# Altium footprint library FootPrintLib_4.PcbLib: 700 footprints (part 5 of 44)
Each footprint in its own frame and in the unit in brackets; x right, y up, seen from the top. Pads: shape width x height; smd on the part's side, far side on the other; paste and mask are expansions set on the pad; w line width, h text height; cw(c..) or ccw(c..) is an arc to the next point about the centre after c.
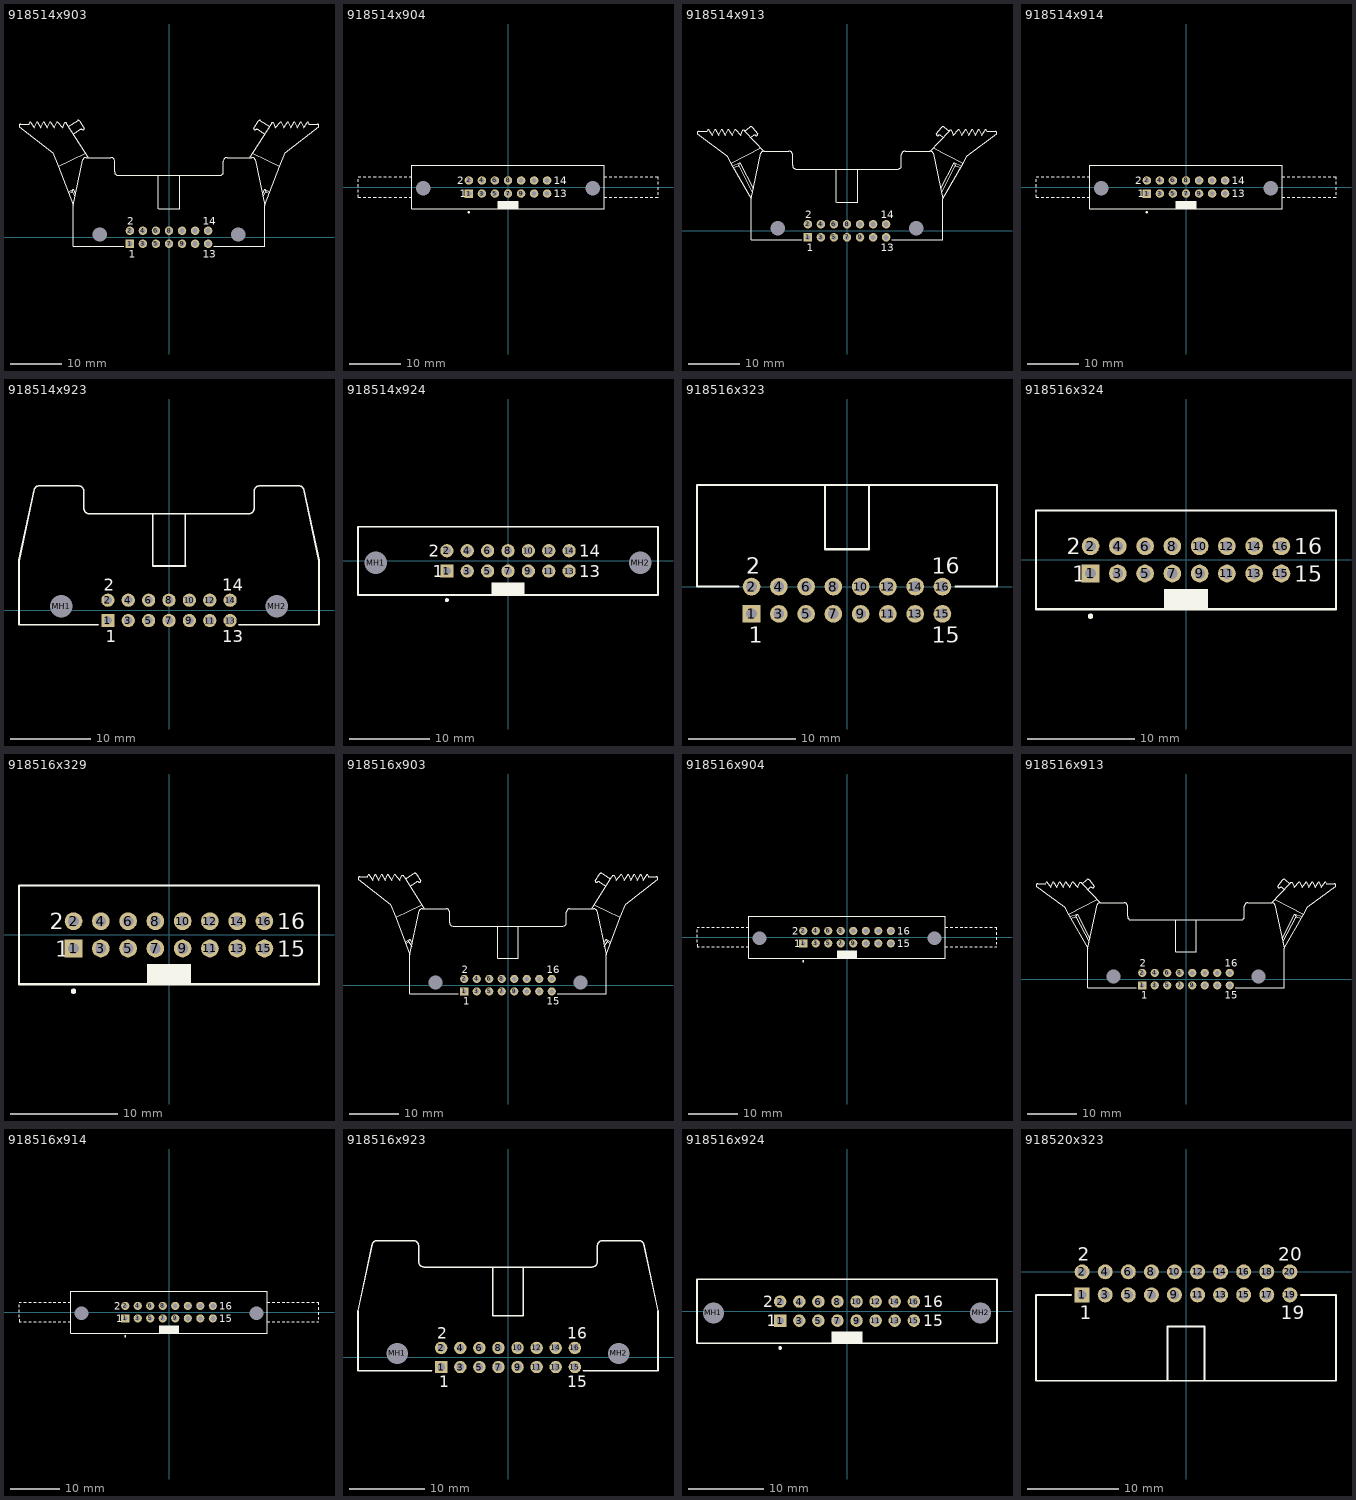
[diagram p4: the footprints below, top view; thin cyan lines are the x and y axes]

## 918514x903 [mm] "Connector; IDC, Thru-Hole; 14 Position; Right Angle; Pitch 2.54 mm; Body 37.40 x 8.5 x 25.75 mm (LxHxW), Locking levers"
height 25.75
pads (16):
  rect 1.65x1.65 hole 1: 1(-7.62,-1.27)
  round 1.65 hole 1: 2(-7.62,1.27) 3(-5.08,-1.27) 4(-5.08,1.27) 5(-2.54,-1.27) 6(-2.54,1.27) 7(0,-1.27) 8(0,1.27) 9(2.54,-1.27) 10(2.54,1.27) 11(5.08,-1.27) 12(5.08,1.27) 13(7.62,-1.27) 14(7.62,1.27)
  round 2.5 hole 2.8 unplated: MH1(-13.46,0.53) MH2(13.46,0.53)
Top Overlay:
  lines w0.2: -19.67,8.851 -18.705,9.3 ; -19.541,8.563 -18.87,8.877 ; -19.535,21.6 -17.812,22.725 cw(c-17.663,22.387) -17.397,22.644 -16.472,21.245 cw(c-16.792,21.225) -16.844,20.91 ccw(c-17.112,20.595) -17.247,20.985 ; -18.613,20.103 -17.25,20.991 ; -18.343,7.925 -18.87,8.877 ; -18.243,8.378 -18.705,9.3 ; -16.315,16.383 -21.539,13.84 ; -15.744,15.53 -19.878,22.058 ccw(c-20.201,21.956) -20.343,22.265 -20.75,21.301 -21.78,22.501 -22.41,21.301 -23.16,22.501 -23.71,21.301 -24.41,22.501 -25.03,21.301 -25.68,22.501 -26.28,21.301 -27.025,22.501 ; -8.845,-1.77 -18.7,-1.77 -18.7,6.23 ; -2.05,5.53 -2.05,12.03 ; -2.04,5.53 2.06,5.53 ; 2.05,5.534 2.05,12.03 ; 8.73,-1.77 18.7,-1.77 18.7,6.23 ; 15.744,15.53 19.878,22.058 cw(c20.201,21.956) 20.343,22.265 20.75,21.301 21.78,22.501 22.41,21.301 23.16,22.501 23.71,21.301 24.41,22.501 25.03,21.301 25.68,22.501 26.28,21.301 27.025,22.501 ; 16.315,16.383 21.539,13.84 ; 17.247,20.985 ccw(c17.112,20.595) 16.844,20.91 cw(c16.792,21.225) 16.472,21.245 17.397,22.644 cw(c17.663,22.387) 17.812,22.725 19.535,21.6 ; 17.25,20.991 18.613,20.103 ; 18.243,8.378 18.705,9.3 ; 18.343,7.925 18.87,8.877 ; 19.541,8.563 18.87,8.877 ; 19.67,8.851 18.705,9.3 ; -27.28,22.03 -27.025,22.501 ; -27.28,22.03 -27.025,22.501 ; -27.28,22.03 -28.891,22.03 ccw(c-28.891,21.69) -29.2,21.549 -22.665,16.455 -21.539,13.84 ; -21.539,13.84 -18.7,6.23 ; -18.87,8.877 -18.705,9.3 ; -18.7,6.23 -16.81,15.102 cw(c-16.165,14.83) -16.15,15.53 -11.305,15.53 cw(c-11.305,14.83) -10.605,14.83 -10.605,12.73 ccw(c-9.905,12.73) -9.905,12.03 9.905,12.03 ccw(c9.905,12.73) 10.605,12.73 10.605,14.83 cw(c11.305,14.83) 11.305,15.53 16.15,15.53 cw(c16.165,14.83) 16.81,15.102 18.7,6.23 ; 18.7,6.23 21.539,13.84 ; 18.705,9.3 18.87,8.877 ; 21.539,13.84 22.665,16.455 29.2,21.549 ccw(c28.891,21.69) 28.891,22.03 27.28,22.03 ; 27.025,22.501 27.28,22.03 ; 27.025,22.501 27.28,22.03
  text "13" at 6.62,-3.97 h1.5
  text "14" at 6.62,2.47 h1.5
  text "1" at -7.87,-3.97 h1.5
  text "2" at -8.12,2.47 h1.5

## 918514x904 [mm] "Connector; IDC, Thru-Hole; 14 Position; Vertical; Pitch 2.54 mm; Body 37.40 x 8.5 x 25.75 mm (LxWxH), Locking levers"
height 25.75
pads (16):
  rect 1.65x1.65 hole 1: 1(-7.62,-1.27)
  round 1.65 hole 1: 2(-7.62,1.27) 3(-5.08,-1.27) 4(-5.08,1.27) 5(-2.54,-1.27) 6(-2.54,1.27) 7(0,-1.27) 8(0,1.27) 9(2.54,-1.27) 10(2.54,1.27) 11(5.08,-1.27) 12(5.08,1.27) 13(7.62,-1.27) 14(7.62,1.27)
  round 2.5 hole 2.8 unplated: MH1(-16.51,-0.25) MH2(16.51,-0.25)
Top Overlay:
  circle w0.25: c-7.62,-4.9 r0.125
  rectangle: -2.05,-4.25 2.05,-2.7
  lines w0.2: -29.2,-1 -29.2,-0.5 ; -29.2,0 -29.2,0.5 ; -29.2,1 -29.2,1.5 ; -29.2,2 -28.69,2 ; -29.19,-1.5 -29.2,-2 -28.69,-2 ; -28.19,-2 -27.69,-2 ; -28.19,2 -27.69,2 ; -27.19,-2 -26.69,-2 ; -27.19,2 -26.69,2 ; -26.19,-2 -25.69,-2 ; -26.19,2 -25.69,2 ; -25.19,-2 -24.69,-2 ; -25.19,2 -24.69,2 ; -24.19,-2 -23.69,-2 ; -24.19,2 -23.69,2 ; -23.19,-2 -22.69,-2 ; -23.19,2 -22.69,2 ; -22.19,-2 -21.69,-2 ; -22.19,2 -21.69,2 ; -21.19,-2 -20.69,-2 ; -21.19,2 -20.69,2 ; -20.19,-2 -19.69,-2 ; -20.19,2 -19.69,2 ; -19.19,-2 -18.7,-2 ; -19.19,2 -18.7,2 ; 18.7,-2 19.2,-2 ; 18.7,2 19.2,2 ; 19.7,-2 20.2,-2 ; 19.7,2 20.2,2 ; 20.7,-2 21.2,-2 ; 20.7,2 21.2,2 ; 21.7,-2 22.2,-2 ; 21.7,2 22.2,2 ; 22.7,-2 23.2,-2 ; 22.7,2 23.2,2 ; 23.7,-2 24.2,-2 ; 23.7,2 24.2,2 ; 24.7,-2 25.2,-2 ; 24.7,2 25.2,2 ; 25.7,-2 26.2,-2 ; 25.7,2 26.2,2 ; 26.7,-2 27.2,-2 ; 26.7,2 27.2,2 ; 27.7,-2 28.2,-2 ; 27.7,2 28.2,2 ; 28.7,-2 29.2,-2 ; 28.7,2 29.2,2 29.2,1.5 ; 29.2,-1.5 29.2,-1 ; 29.2,-0.5 29.2,0 ; 29.2,0.5 29.2,1 ; -18.7,-4.25 18.7,-4.25 18.7,4.25 -18.7,4.25 -18.7,-4.25
  text "13" at 8.9,-2.02 h1.5
  text "14" at 8.9,0.52 h1.5
  text "1" at -9.4,-2.02 h1.5
  text "2" at -9.9,0.52 h1.5

## 918514x913 [mm] "Connector; IDC, Thru-Hole; 14 Position; Right Angle; Pitch 2.54 mm; Body 37.40 x 8.5 x 23.30 mm (LxHxW), Locking levers"
height 23.3
pads (16):
  rect 1.65x1.65 hole 1: 1(-7.62,-1.27)
  round 1.65 hole 1: 2(-7.62,1.27) 3(-5.08,-1.27) 4(-5.08,1.27) 5(-2.54,-1.27) 6(-2.54,1.27) 7(0,-1.27) 8(0,1.27) 9(2.54,-1.27) 10(2.54,1.27) 11(5.08,-1.27) 12(5.08,1.27) 13(7.62,-1.27) 14(7.62,1.27)
  round 2.5 hole 2.8 unplated: MH1(-13.46,0.53) MH2(13.46,0.53)
Top Overlay:
  lines w0.2: -22.369,12.722 -20.881,13.218 ; -22.141,12.377 -21.123,12.716 ; -18.738,18.198 -18.173,18.617 cw(c-18.037,18.227) -17.77,18.542 ccw(c-17.717,18.857) -17.398,18.877 -18.457,20.156 ccw(c-18.723,19.899) -18.872,20.238 -19.878,19.388 ; -18.453,7.442 -21.123,12.716 ; -18.306,8.195 -20.881,13.218 ; -16.82,16.204 -22.639,13.199 ; -16.207,15.533 -19.878,19.388 ; -8.845,-1.77 -18.7,-1.77 -18.7,6.23 ; -2.05,5.53 -2.05,12.03 ; -2.04,5.53 2.06,5.53 ; 2.05,5.534 2.05,12.03 ; 8.73,-1.77 18.7,-1.77 18.7,6.23 ; 16.207,15.533 19.878,19.388 ; 16.82,16.204 22.639,13.199 ; 18.306,8.195 20.881,13.218 ; 18.453,7.442 21.123,12.716 ; 18.738,18.198 18.173,18.617 ccw(c18.037,18.227) 17.77,18.542 cw(c17.717,18.857) 17.398,18.877 18.457,20.156 cw(c18.723,19.899) 18.872,20.238 19.878,19.388 ; 22.141,12.377 21.123,12.716 ; 22.369,12.722 20.881,13.218 ; -27.28,19.359 -27.024,19.83 ; -27.28,19.359 -27.024,19.83 ; -27.28,19.359 -28.891,19.359 ccw(c-28.891,19.02) -29.2,18.879 -23.445,14.654 -22.639,13.199 ; -27.024,19.83 -26.28,18.63 -25.68,19.83 -25.03,18.63 -24.41,19.83 -23.71,18.63 -23.16,19.83 -22.41,18.63 -21.78,19.83 -20.75,18.63 -20.343,19.594 cw(c-20.201,19.285) -19.878,19.388 ; -22.639,13.199 -18.7,6.23 ; -21.123,12.716 -20.881,13.218 ; -18.7,6.23 -16.81,15.102 cw(c-16.165,14.83) -16.15,15.53 -11.305,15.53 cw(c-11.305,14.83) -10.605,14.83 -10.605,12.73 ccw(c-9.905,12.73) -9.905,12.03 9.905,12.03 ccw(c9.905,12.73) 10.605,12.73 10.605,14.83 cw(c11.305,14.83) 11.305,15.53 16.15,15.53 cw(c16.165,14.83) 16.81,15.102 18.7,6.23 ; 18.7,6.23 22.639,13.199 ; 19.878,19.388 cw(c20.201,19.285) 20.343,19.594 20.75,18.63 21.78,19.83 22.41,18.63 23.16,19.83 23.71,18.63 24.41,19.83 25.03,18.63 25.68,19.83 26.28,18.63 27.024,19.83 ; 20.881,13.218 21.123,12.716 ; 22.639,13.199 23.445,14.654 29.2,18.879 ccw(c28.891,19.02) 28.891,19.359 27.28,19.359 ; 27.024,19.83 27.28,19.359 ; 27.024,19.83 27.28,19.359
  text "2" at -8.12,2.47 h1.5
  text "1" at -7.87,-3.97 h1.5
  text "14" at 6.62,2.47 h1.5
  text "13" at 6.62,-3.97 h1.5

## 918514x914 [mm] "Connector; IDC, Thru-Hole; 14 Position; Vertical; Pitch 2.54 mm; Body 37.40 x 8.5 x 23.30 mm (LxWxH), Locking levers"
height 23.3
pads (16):
  rect 1.65x1.65 hole 1: 1(-7.62,-1.27)
  round 1.65 hole 1: 2(-7.62,1.27) 3(-5.08,-1.27) 4(-5.08,1.27) 5(-2.54,-1.27) 6(-2.54,1.27) 7(0,-1.27) 8(0,1.27) 9(2.54,-1.27) 10(2.54,1.27) 11(5.08,-1.27) 12(5.08,1.27) 13(7.62,-1.27) 14(7.62,1.27)
  round 2.5 hole 2.8 unplated: MH1(-16.51,-0.25) MH2(16.51,-0.25)
Top Overlay:
  circle w0.25: c-7.62,-4.9 r0.125
  rectangle: -2.05,-4.25 2.05,-2.7
  lines w0.2: -29.2,-1 -29.2,-0.5 ; -29.2,0 -29.2,0.5 ; -29.2,1 -29.2,1.5 ; -29.2,2 -28.69,2 ; -29.19,-1.5 -29.2,-2 -28.69,-2 ; -28.19,-2 -27.69,-2 ; -28.19,2 -27.69,2 ; -27.19,-2 -26.69,-2 ; -27.19,2 -26.69,2 ; -26.19,-2 -25.69,-2 ; -26.19,2 -25.69,2 ; -25.19,-2 -24.69,-2 ; -25.19,2 -24.69,2 ; -24.19,-2 -23.69,-2 ; -24.19,2 -23.69,2 ; -23.19,-2 -22.69,-2 ; -23.19,2 -22.69,2 ; -22.19,-2 -21.69,-2 ; -22.19,2 -21.69,2 ; -21.19,-2 -20.69,-2 ; -21.19,2 -20.69,2 ; -20.19,-2 -19.69,-2 ; -20.19,2 -19.69,2 ; -19.19,-2 -18.7,-2 ; -19.19,2 -18.7,2 ; 18.7,-2 19.2,-2 ; 18.7,2 19.2,2 ; 19.7,-2 20.2,-2 ; 19.7,2 20.2,2 ; 20.7,-2 21.2,-2 ; 20.7,2 21.2,2 ; 21.7,-2 22.2,-2 ; 21.7,2 22.2,2 ; 22.7,-2 23.2,-2 ; 22.7,2 23.2,2 ; 23.7,-2 24.2,-2 ; 23.7,2 24.2,2 ; 24.7,-2 25.2,-2 ; 24.7,2 25.2,2 ; 25.7,-2 26.2,-2 ; 25.7,2 26.2,2 ; 26.7,-2 27.2,-2 ; 26.7,2 27.2,2 ; 27.7,-2 28.2,-2 ; 27.7,2 28.2,2 ; 28.7,-2 29.2,-2 ; 28.7,2 29.2,2 29.2,1.5 ; 29.2,-1.5 29.2,-1 ; 29.2,-0.5 29.2,0 ; 29.2,0.5 29.2,1 ; -18.7,-4.25 18.7,-4.25 18.7,4.25 -18.7,4.25 -18.7,-4.25
  text "13" at 8.9,-2.02 h1.5
  text "14" at 8.9,0.52 h1.5
  text "1" at -9.4,-2.02 h1.5
  text "2" at -9.9,0.52 h1.5

## 918514x923 [mm] "Connector; IDC, Thru-Hole; 14 Position; Right Angle; Pitch 2.54 mm; Body 37.40 x 8.5 x 17.30 mm (LxHxW), Without locking levers"
height 17.3
pads (16):
  rect 1.65x1.65 hole 1: 1(-7.62,-1.27)
  round 1.65 hole 1: 2(-7.62,1.27) 3(-5.08,-1.27) 4(-5.08,1.27) 5(-2.54,-1.27) 6(-2.54,1.27) 7(0,-1.27) 8(0,1.27) 9(2.54,-1.27) 10(2.54,1.27) 11(5.08,-1.27) 12(5.08,1.27) 13(7.62,-1.27) 14(7.62,1.27)
  round 2.5 hole 2.8 unplated: MH1(-13.46,0.53) MH2(13.46,0.53)
Top Overlay:
  lines w0.2: -8.845,-1.77 -18.7,-1.77 -18.7,6.23 -16.81,15.102 cw(c-16.165,14.83) -16.15,15.53 -11.305,15.53 cw(c-11.305,14.83) -10.605,14.83 -10.605,12.73 ccw(c-9.905,12.73) -9.905,12.03 9.905,12.03 ccw(c9.905,12.73) 10.605,12.73 10.605,14.83 cw(c11.305,14.83) 11.305,15.53 16.15,15.53 cw(c16.165,14.83) 16.81,15.102 18.7,6.23 18.7,-1.77 8.73,-1.77 ; -2.05,5.53 -2.05,12.03 ; -2.04,5.53 2.06,5.53 ; 2.05,5.534 2.05,12.03
  text "2" at -8.12,2.47 h1.5
  text "1" at -7.87,-3.97 h1.5
  text "14" at 6.62,2.47 h1.5
  text "13" at 6.62,-3.97 h1.5

## 918514x924 [mm] "Connector; IDC, Thru-Hole; 14 Position; Vertical; Pitch 2.54 mm; Body 37.40 x 8.5 x 17.30 mm (LxWxH), Without locking levers"
height 17.3
pads (16):
  rect 1.65x1.65 hole 1: 1(-7.62,-1.27)
  round 1.65 hole 1: 2(-7.62,1.27) 3(-5.08,-1.27) 4(-5.08,1.27) 5(-2.54,-1.27) 6(-2.54,1.27) 7(0,-1.27) 8(0,1.27) 9(2.54,-1.27) 10(2.54,1.27) 11(5.08,-1.27) 12(5.08,1.27) 13(7.62,-1.27) 14(7.62,1.27)
  round 2.5 hole 2.8 unplated: MH1(-16.51,-0.25) MH2(16.51,-0.25)
Top Overlay:
  circle w0.25: c-7.62,-4.9 r0.125
  rectangle: -2.05,-4.25 2.05,-2.7
  lines w0.2: -18.7,-4.25 18.7,-4.25 18.7,4.25 -18.7,4.25 -18.7,-4.25
  text "13" at 8.9,-2.02 h1.5
  text "14" at 8.9,0.52 h1.5
  text "1" at -9.4,-2.02 h1.5
  text "2" at -9.9,0.52 h1.5

## 918516x323 [mm] "Connector; IDC, Low Profile Male Header, Thru-Hole; 16 Position; Right Angle; Pitch 2.54 mm; Body 27.94 x 8.9 x 9.2 mm (LxWxH)"
height 9.2
pads (16):
  rect 1.65x1.65 hole 1: 1(-8.89,-2.54)
  round 1.65 hole 1: 2(-8.89,0) 3(-6.35,-2.54) 4(-6.35,0) 5(-3.81,-2.54) 6(-3.81,0) 7(-1.27,-2.54) 8(-1.27,0) 9(1.27,-2.54) 10(1.27,0) 11(3.81,-2.54) 12(3.81,0) 13(6.35,-2.54) 14(6.35,0) 15(8.89,-2.54) 16(8.89,0)
Top Overlay:
  lines w0.2: -10.115,0 -13.97,0 -13.97,9.45 13.97,9.45 13.97,0 10.115,0 ; -2.05,9.45 -2.05,3.48 2.05,3.48 2.05,9.45
  text "2" at -9.39,1.2 h1.5
  text "1" at -9.14,-5.24 h1.5
  text "16" at 7.89,1.2 h1.5
  text "15" at 7.89,-5.24 h1.5

## 918516x324 [mm] "Connector; IDC, Low Profile Male Header, Thru-Hole; 16 Position; Vertical; Pitch 2.54 mm; Body 27.94 x 9.2 x 9.45 mm (LxWxH)"
height 9.45
pads (16):
  rect 1.65x1.65 hole 1: 1(-8.89,-1.27)
  round 1.65 hole 1: 2(-8.89,1.27) 3(-6.35,-1.27) 4(-6.35,1.27) 5(-3.81,-1.27) 6(-3.81,1.27) 7(-1.27,-1.27) 8(-1.27,1.27) 9(1.27,-1.27) 10(1.27,1.27) 11(3.81,-1.27) 12(3.81,1.27) 13(6.35,-1.27) 14(6.35,1.27) 15(8.89,-1.27) 16(8.89,1.27)
Top Overlay:
  circle w0.25: c-8.89,-5.25 r0.125
  rectangle: -2.05,-4.6 2.05,-2.7
  lines w0.2: -13.97,-4.6 -13.97,4.6 13.97,4.6 13.97,-4.6 -13.97,-4.6
  text "2" at -11.09,0.52 h1.5
  text "1" at -10.59,-2.02 h1.5
  text "16" at 10.09,0.52 h1.5
  text "15" at 10.09,-2.02 h1.5

## 918516x329 [mm] "Connector; IDC, Straight Press-in Pin, Thru-Hole; 16 Position; Vertical; Pitch 2.54 mm; Body 27.94 x 9.2 x 9.45 mm (LxWxH)"
height 9.45
pads (16):
  rect 1.65x1.65 hole 1: 1(-8.89,-1.27)
  round 1.65 hole 1: 2(-8.89,1.27) 3(-6.35,-1.27) 4(-6.35,1.27) 5(-3.81,-1.27) 6(-3.81,1.27) 7(-1.27,-1.27) 8(-1.27,1.27) 9(1.27,-1.27) 10(1.27,1.27) 11(3.81,-1.27) 12(3.81,1.27) 13(6.35,-1.27) 14(6.35,1.27) 15(8.89,-1.27) 16(8.89,1.27)
Top Overlay:
  circle w0.25: c-8.89,-5.25 r0.125
  rectangle: -2.05,-4.6 2.05,-2.7
  lines w0.2: -13.97,-4.6 -13.97,4.6 13.97,4.6 13.97,-4.6 -13.97,-4.6
  text "2" at -11.09,0.52 h1.5
  text "1" at -10.59,-2.02 h1.5
  text "16" at 10.09,0.52 h1.5
  text "15" at 10.09,-2.02 h1.5

## 918516x903 [mm] "Connector; IDC, Thru-Hole; 16 Position; Right Angle; Pitch 2.54 mm; Body 39.90 x 8.5 x 25.75 mm (LxHxW), Locking levers"
height 25.75
pads (18):
  rect 1.65x1.65 hole 1: 1(-8.89,-1.27)
  round 1.65 hole 1: 2(-8.89,1.27) 3(-6.35,-1.27) 4(-6.35,1.27) 5(-3.81,-1.27) 6(-3.81,1.27) 7(-1.27,-1.27) 8(-1.27,1.27) 9(1.27,-1.27) 10(1.27,1.27) 11(3.81,-1.27) 12(3.81,1.27) 13(6.35,-1.27) 14(6.35,1.27) 15(8.89,-1.27) 16(8.89,1.27)
  round 2.5 hole 2.8 unplated: MH1(-14.73,0.53) MH2(14.73,0.53)
Top Overlay:
  lines w0.2: -20.92,8.851 -19.955,9.3 ; -20.791,8.563 -20.12,8.877 ; -20.785,21.6 -19.062,22.725 cw(c-18.913,22.387) -18.647,22.644 -17.722,21.245 cw(c-18.042,21.225) -18.094,20.91 ccw(c-18.362,20.595) -18.497,20.985 ; -19.863,20.103 -18.5,20.991 ; -19.593,7.925 -20.12,8.877 ; -19.493,8.378 -19.955,9.3 ; -17.565,16.383 -22.789,13.84 ; -16.994,15.53 -21.128,22.058 ccw(c-21.451,21.956) -21.593,22.265 -22,21.301 -23.03,22.501 -23.66,21.301 -24.41,22.501 -24.96,21.301 -25.66,22.501 -26.28,21.301 -26.93,22.501 -27.53,21.301 -28.275,22.501 ; -10.115,-1.77 -19.95,-1.77 -19.95,6.23 ; -2.05,5.53 -2.05,12.03 ; -2.04,5.53 2.06,5.53 ; 2.05,5.534 2.05,12.03 ; 10,-1.77 19.95,-1.77 19.95,6.23 ; 16.994,15.53 21.128,22.058 cw(c21.451,21.956) 21.593,22.265 22,21.301 23.03,22.501 23.66,21.301 24.41,22.501 24.96,21.301 25.66,22.501 26.28,21.301 26.93,22.501 27.53,21.301 28.275,22.501 ; 17.565,16.383 22.789,13.84 ; 18.497,20.985 ccw(c18.362,20.595) 18.094,20.91 cw(c18.042,21.225) 17.722,21.245 18.647,22.644 cw(c18.913,22.387) 19.062,22.725 20.785,21.6 ; 18.5,20.991 19.863,20.103 ; 19.493,8.378 19.955,9.3 ; 19.593,7.925 20.12,8.877 ; 20.791,8.563 20.12,8.877 ; 20.92,8.851 19.955,9.3 ; -28.53,22.03 -28.275,22.501 ; -28.53,22.03 -28.275,22.501 ; -28.53,22.03 -30.141,22.03 ccw(c-30.141,21.69) -30.45,21.549 -23.915,16.455 -22.789,13.84 ; -22.789,13.84 -19.95,6.23 ; -20.12,8.877 -19.955,9.3 ; -19.95,6.23 -18.06,15.102 cw(c-17.415,14.83) -17.4,15.53 -12.575,15.53 cw(c-12.575,14.83) -11.875,14.83 -11.875,12.73 ccw(c-11.175,12.73) -11.175,12.03 11.175,12.03 ccw(c11.175,12.73) 11.875,12.73 11.875,14.83 cw(c12.575,14.83) 12.575,15.53 17.4,15.53 cw(c17.415,14.83) 18.06,15.102 19.95,6.23 ; 19.95,6.23 22.789,13.84 ; 19.955,9.3 20.12,8.877 ; 22.789,13.84 23.915,16.455 30.45,21.549 ccw(c30.141,21.69) 30.141,22.03 28.53,22.03 ; 28.275,22.501 28.53,22.03 ; 28.275,22.501 28.53,22.03
  text "15" at 7.89,-3.97 h1.5
  text "16" at 7.89,2.47 h1.5
  text "1" at -9.14,-3.97 h1.5
  text "2" at -9.39,2.47 h1.5

## 918516x904 [mm] "Connector; IDC, Thru-Hole; 16 Position; Vertical; Pitch 2.54 mm; Body 39.90 x 8.5 x 25.75 mm (LxWxH), Locking levers"
height 25.75
pads (18):
  rect 1.65x1.65 hole 1: 1(-8.89,-1.27)
  round 1.65 hole 1: 2(-8.89,1.27) 3(-6.35,-1.27) 4(-6.35,1.27) 5(-3.81,-1.27) 6(-3.81,1.27) 7(-1.27,-1.27) 8(-1.27,1.27) 9(1.27,-1.27) 10(1.27,1.27) 11(3.81,-1.27) 12(3.81,1.27) 13(6.35,-1.27) 14(6.35,1.27) 15(8.89,-1.27) 16(8.89,1.27)
  round 2.5 hole 2.8 unplated: MH1(-17.78,-0.25) MH2(17.78,-0.25)
Top Overlay:
  circle w0.25: c-8.89,-4.9 r0.125
  rectangle: -2.05,-4.25 2.05,-2.7
  lines w0.2: -30.46,-1.5 -30.45,-2 -29.96,-2 ; -30.45,-1 -30.45,-0.5 ; -30.45,0 -30.45,0.5 ; -30.45,1 -30.45,1.5 ; -30.45,2 -29.96,2 ; -29.46,-2 -28.96,-2 ; -29.46,2 -28.96,2 ; -28.46,-2 -27.96,-2 ; -28.46,2 -27.96,2 ; -27.46,-2 -26.96,-2 ; -27.46,2 -26.96,2 ; -26.46,-2 -25.96,-2 ; -26.46,2 -25.96,2 ; -25.46,-2 -24.96,-2 ; -25.46,2 -24.96,2 ; -24.46,-2 -23.96,-2 ; -24.46,2 -23.96,2 ; -23.46,-2 -22.96,-2 ; -23.46,2 -22.96,2 ; -22.46,-2 -21.96,-2 ; -22.46,2 -21.96,2 ; -21.46,-2 -20.96,-2 ; -21.46,2 -20.96,2 ; -20.46,-2 -19.95,-2 ; -20.46,2 -19.95,2 ; 19.95,-2 20.45,-2 ; 19.95,2 20.45,2 ; 20.95,-2 21.45,-2 ; 20.95,2 21.45,2 ; 21.95,-2 22.45,-2 ; 21.95,2 22.45,2 ; 22.95,-2 23.45,-2 ; 22.95,2 23.45,2 ; 23.95,-2 24.45,-2 ; 23.95,2 24.45,2 ; 24.95,-2 25.45,-2 ; 24.95,2 25.45,2 ; 25.95,-2 26.45,-2 ; 25.95,2 26.45,2 ; 26.95,-2 27.45,-2 ; 26.95,2 27.45,2 ; 27.95,-2 28.45,-2 ; 27.95,2 28.45,2 ; 28.95,-2 29.45,-2 ; 28.95,2 29.45,2 ; 29.95,-2 30.45,-2 ; 29.95,2 30.45,2 30.45,1.5 ; 30.45,-1.5 30.45,-1 ; 30.45,-0.5 30.45,0 ; 30.45,0.5 30.45,1 ; -19.95,-4.25 -19.95,4.25 19.95,4.25 19.95,-4.25 -19.95,-4.25
  text "2" at -11.17,0.52 h1.5
  text "1" at -10.67,-2.02 h1.5
  text "16" at 10.17,0.52 h1.5
  text "15" at 10.17,-2.02 h1.5

## 918516x913 [mm] "Connector; IDC, Thru-Hole; 16 Position; Right Angle; Pitch 2.54 mm; Body 39.90 x 8.5 x 23.30 mm (LxHxW), Locking levers"
height 23.3
pads (18):
  rect 1.65x1.65 hole 1: 1(-8.89,-1.27)
  round 1.65 hole 1: 2(-8.89,1.27) 3(-6.35,-1.27) 4(-6.35,1.27) 5(-3.81,-1.27) 6(-3.81,1.27) 7(-1.27,-1.27) 8(-1.27,1.27) 9(1.27,-1.27) 10(1.27,1.27) 11(3.81,-1.27) 12(3.81,1.27) 13(6.35,-1.27) 14(6.35,1.27) 15(8.89,-1.27) 16(8.89,1.27)
  round 2.5 hole 2.8 unplated: MH1(-14.73,0.53) MH2(14.73,0.53)
Top Overlay:
  lines w0.2: -23.619,12.722 -22.131,13.218 ; -23.391,12.377 -22.373,12.716 ; -19.988,18.198 -19.423,18.617 cw(c-19.287,18.227) -19.02,18.542 ccw(c-18.967,18.857) -18.648,18.877 -19.707,20.156 ccw(c-19.973,19.899) -20.122,20.238 -21.128,19.388 ; -19.703,7.442 -22.373,12.716 ; -19.556,8.195 -22.131,13.218 ; -18.07,16.204 -23.889,13.199 ; -17.46,15.53 -12.575,15.53 cw(c-12.575,14.83) -11.875,14.83 -11.875,12.73 ccw(c-11.175,12.73) -11.175,12.03 11.175,12.03 ccw(c11.175,12.73) 11.875,12.73 11.875,14.83 cw(c12.575,14.83) 12.575,15.53 17.46,15.53 ; -17.457,15.533 -21.128,19.388 ; -17.4,15.53 ccw(c-17.415,14.83) -18.06,15.102 -19.95,6.23 ; -10.115,-1.77 -19.95,-1.77 -19.95,6.23 ; -2.05,5.53 -2.05,12.03 ; -2.04,5.53 2.06,5.53 ; 2.05,5.534 2.05,12.03 ; 10,-1.77 19.95,-1.77 19.95,6.23 ; 17.4,15.53 cw(c17.415,14.83) 18.06,15.102 19.95,6.23 ; 17.457,15.533 21.128,19.388 ; 18.07,16.204 23.889,13.199 ; 19.556,8.195 22.131,13.218 ; 19.703,7.442 22.373,12.716 ; 19.988,18.198 19.423,18.617 ccw(c19.287,18.227) 19.02,18.542 cw(c18.967,18.857) 18.648,18.877 19.707,20.156 cw(c19.973,19.899) 20.122,20.238 21.128,19.388 ; 23.391,12.377 22.373,12.716 ; 23.619,12.722 22.131,13.218 ; -28.53,19.359 -30.141,19.359 ccw(c-30.141,19.02) -30.45,18.879 -24.695,14.654 -23.889,13.199 ; -28.53,19.359 -28.274,19.83 ; -28.53,19.359 -28.274,19.83 ; -28.274,19.83 -27.53,18.63 -26.93,19.83 -26.28,18.63 -25.66,19.83 -24.96,18.63 -24.41,19.83 -23.66,18.63 -23.03,19.83 -22,18.63 -21.593,19.594 cw(c-21.451,19.285) -21.128,19.388 ; -23.889,13.199 -19.95,6.23 ; -22.373,12.716 -22.131,13.218 ; 19.95,6.23 23.889,13.199 ; 21.128,19.388 cw(c21.451,19.285) 21.593,19.594 22,18.63 23.03,19.83 23.66,18.63 24.41,19.83 24.96,18.63 25.66,19.83 26.28,18.63 26.93,19.83 27.53,18.63 28.274,19.83 ; 22.131,13.218 22.373,12.716 ; 23.889,13.199 24.695,14.654 30.45,18.879 ccw(c30.141,19.02) 30.141,19.359 28.53,19.359 ; 28.274,19.83 28.53,19.359 ; 28.274,19.83 28.53,19.359
  text "15" at 7.89,-3.97 h1.5
  text "16" at 7.89,2.47 h1.5
  text "1" at -9.14,-3.97 h1.5
  text "2" at -9.39,2.47 h1.5

## 918516x914 [mm] "Connector; IDC, Thru-Hole; 16 Position; Vertical; Pitch 2.54 mm; Body 39.90 x 8.5 x 23.30 mm (LxWxH), Locking levers"
height 23.3
pads (18):
  rect 1.65x1.65 hole 1: 1(-8.89,-1.27)
  round 1.65 hole 1: 2(-8.89,1.27) 3(-6.35,-1.27) 4(-6.35,1.27) 5(-3.81,-1.27) 6(-3.81,1.27) 7(-1.27,-1.27) 8(-1.27,1.27) 9(1.27,-1.27) 10(1.27,1.27) 11(3.81,-1.27) 12(3.81,1.27) 13(6.35,-1.27) 14(6.35,1.27) 15(8.89,-1.27) 16(8.89,1.27)
  round 2.5 hole 2.8 unplated: MH1(-17.78,-0.25) MH2(17.78,-0.25)
Top Overlay:
  circle w0.25: c-8.89,-4.9 r0.125
  rectangle: -2.05,-4.25 2.05,-2.7
  lines w0.2: -30.46,-1.5 -30.45,-2 -29.96,-2 ; -30.45,-1 -30.45,-0.5 ; -30.45,0 -30.45,0.5 ; -30.45,1 -30.45,1.5 ; -30.45,2 -29.96,2 ; -29.46,-2 -28.96,-2 ; -29.46,2 -28.96,2 ; -28.46,-2 -27.96,-2 ; -28.46,2 -27.96,2 ; -27.46,-2 -26.96,-2 ; -27.46,2 -26.96,2 ; -26.46,-2 -25.96,-2 ; -26.46,2 -25.96,2 ; -25.46,-2 -24.96,-2 ; -25.46,2 -24.96,2 ; -24.46,-2 -23.96,-2 ; -24.46,2 -23.96,2 ; -23.46,-2 -22.96,-2 ; -23.46,2 -22.96,2 ; -22.46,-2 -21.96,-2 ; -22.46,2 -21.96,2 ; -21.46,-2 -20.96,-2 ; -21.46,2 -20.96,2 ; -20.46,-2 -19.95,-2 ; -20.46,2 -19.95,2 ; 19.95,-2 20.45,-2 ; 19.95,2 20.45,2 ; 20.95,-2 21.45,-2 ; 20.95,2 21.45,2 ; 21.95,-2 22.45,-2 ; 21.95,2 22.45,2 ; 22.95,-2 23.45,-2 ; 22.95,2 23.45,2 ; 23.95,-2 24.45,-2 ; 23.95,2 24.45,2 ; 24.95,-2 25.45,-2 ; 24.95,2 25.45,2 ; 25.95,-2 26.45,-2 ; 25.95,2 26.45,2 ; 26.95,-2 27.45,-2 ; 26.95,2 27.45,2 ; 27.95,-2 28.45,-2 ; 27.95,2 28.45,2 ; 28.95,-2 29.45,-2 ; 28.95,2 29.45,2 ; 29.95,-2 30.45,-2 ; 29.95,2 30.45,2 30.45,1.5 ; 30.45,-1.5 30.45,-1 ; 30.45,-0.5 30.45,0 ; 30.45,0.5 30.45,1 ; -19.95,-4.25 -19.95,4.25 19.95,4.25 19.95,-4.25 -19.95,-4.25
  text "2" at -11.17,0.52 h1.5
  text "1" at -10.67,-2.02 h1.5
  text "16" at 10.17,0.52 h1.5
  text "15" at 10.17,-2.02 h1.5

## 918516x923 [mm] "Connector; IDC, Thru-Hole; 16 Position; Right Angle; Pitch 2.54 mm; Body 39.90 x 8.5 x 17.30 mm (LxHxW), Without locking levers"
height 17.3
pads (18):
  rect 1.65x1.65 hole 1: 1(-8.89,-1.27)
  round 1.65 hole 1: 2(-8.89,1.27) 3(-6.35,-1.27) 4(-6.35,1.27) 5(-3.81,-1.27) 6(-3.81,1.27) 7(-1.27,-1.27) 8(-1.27,1.27) 9(1.27,-1.27) 10(1.27,1.27) 11(3.81,-1.27) 12(3.81,1.27) 13(6.35,-1.27) 14(6.35,1.27) 15(8.89,-1.27) 16(8.89,1.27)
  round 2.5 hole 2.8 unplated: MH1(-14.73,0.53) MH2(14.73,0.53)
Top Overlay:
  lines w0.2: -10.115,-1.77 -19.95,-1.77 -19.95,6.23 -18.06,15.102 cw(c-17.415,14.83) -17.4,15.53 -12.575,15.53 cw(c-12.575,14.83) -11.875,14.83 -11.875,12.73 ccw(c-11.175,12.73) -11.175,12.03 11.175,12.03 ccw(c11.175,12.73) 11.875,12.73 11.875,14.83 cw(c12.575,14.83) 12.575,15.53 17.4,15.53 cw(c17.415,14.83) 18.06,15.102 19.95,6.23 19.95,-1.77 10,-1.77 ; -2.05,5.53 -2.05,12.03 ; -2.04,5.53 2.06,5.53 ; 2.05,5.534 2.05,12.03
  text "15" at 7.89,-3.97 h1.5
  text "16" at 7.89,2.47 h1.5
  text "1" at -9.14,-3.97 h1.5
  text "2" at -9.39,2.47 h1.5

## 918516x924 [mm] "Connector; IDC, Thru-Hole; 16 Position; Vertical; Pitch 2.54 mm; Body 39.90 x 8.5 x 17.30 mm (LxWxH), Without locking levers"
height 17.3
pads (18):
  rect 1.65x1.65 hole 1: 1(-8.89,-1.27)
  round 1.65 hole 1: 2(-8.89,1.27) 3(-6.35,-1.27) 4(-6.35,1.27) 5(-3.81,-1.27) 6(-3.81,1.27) 7(-1.27,-1.27) 8(-1.27,1.27) 9(1.27,-1.27) 10(1.27,1.27) 11(3.81,-1.27) 12(3.81,1.27) 13(6.35,-1.27) 14(6.35,1.27) 15(8.89,-1.27) 16(8.89,1.27)
  round 2.5 hole 2.8 unplated: MH1(-17.78,-0.25) MH2(17.78,-0.25)
Top Overlay:
  circle w0.25: c-8.89,-4.9 r0.125
  rectangle: -2.05,-4.25 2.05,-2.7
  lines w0.2: -19.95,-4.25 19.95,-4.25 19.95,4.25 -19.95,4.25 -19.95,-4.25
  text "15" at 10.17,-2.02 h1.5
  text "16" at 10.17,0.52 h1.5
  text "1" at -10.67,-2.02 h1.5
  text "2" at -11.17,0.52 h1.5

## 918520x323 [mm] "Connector; IDC, Low Profile Male Header, Thru-Hole; 20 Position; Right Angle; Pitch 2.54 mm; Body 33.02 x 8.9 x 9.2 mm (LxWxH)"
height 9.2
pads (20):
  rect 1.65x1.65 hole 1: 1(-11.43,-2.54)
  round 1.65 hole 1: 2(-11.43,0) 3(-8.89,-2.54) 4(-8.89,0) 5(-6.35,-2.54) 6(-6.35,0) 7(-3.81,-2.54) 8(-3.81,0) 9(-1.27,-2.54) 10(-1.27,0) 11(1.27,-2.54) 12(1.27,0) 13(3.81,-2.54) 14(3.81,0) 15(6.35,-2.54) 16(6.35,0) 17(8.89,-2.54) 18(8.89,0) 19(11.43,-2.54) 20(11.43,0)
Top Overlay:
  lines w0.2: -12.655,-2.54 -16.51,-2.54 -16.51,-11.99 16.51,-11.99 16.51,-2.54 12.655,-2.54 ; -2.05,-11.99 -2.05,-6.02 2.05,-6.02 2.05,-11.99
  text "19" at 10.43,-5.24 h1.5
  text "20" at 10.18,1.2 h1.5
  text "1" at -11.68,-5.24 h1.5
  text "2" at -11.93,1.2 h1.5